# EAGLE library part MAX2659 (library X893)
http://www.maxim-ic.com/quick_view2.cfm/qv_pk/5299
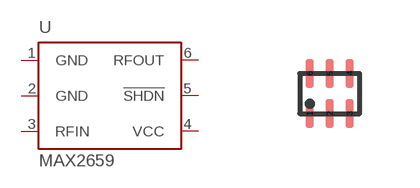
[diagram p69: symbol with the pads of UDFN-6; footprint UDFN-6]

Designator prefix U

## MAX2659  [UDFN-6]
1  GND  pas
2  GND  pas
3  RFIN  pas
4  VCC  pas
5  !SHDN  pas
6  RFOUT  pas

## Footprint UDFN-6 (pad centres in mm)
smd 0.2 x 0.7: 1 -0.5,-0.5; 2 0,-0.5; 3 0.5,-0.5; 4 0.5,0.5; 5 0,0.5; 6 -0.5,0.5